# EAGLE library part HMC5883L-SMALL (library jos-ph)
HMC5883L-SMALL https://www.adafruit.com/products/1746 headers only
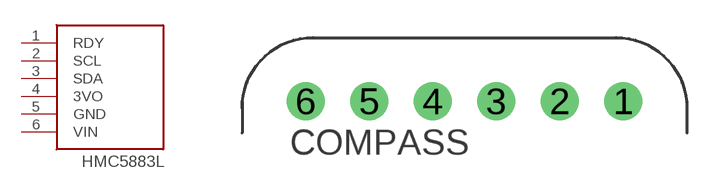
[diagram p5: symbol with the pads of HMC5883L-HEADERSONLY; footprint HMC5883L-HEADERSONLY]

Designator prefix -

## HMC5883L-SMALL  [HMC5883L-HEADERSONLY]
1  RDY
2  SCL
3  SDA
4  3VO
5  GND
6  VIN

## Footprint HMC5883L-HEADERSONLY (pad centres in mm)
drill 1.016: 1 6.35,1.27; 2 3.81,1.27; 3 1.27,1.27; 4 -1.27,1.27; 5 -3.81,1.27; 6 -6.35,1.27